# Altium footprint library 运放.PcbLib: 1 footprints
Each footprint in its own frame and in the unit in brackets; x right, y up, seen from the top. Pads: shape width x height; smd on the part's side, far side on the other; paste and mask are expansions set on the pad; w line width, h text height; cw(c..) or ccw(c..) is an arc to the next point about the centre after c.
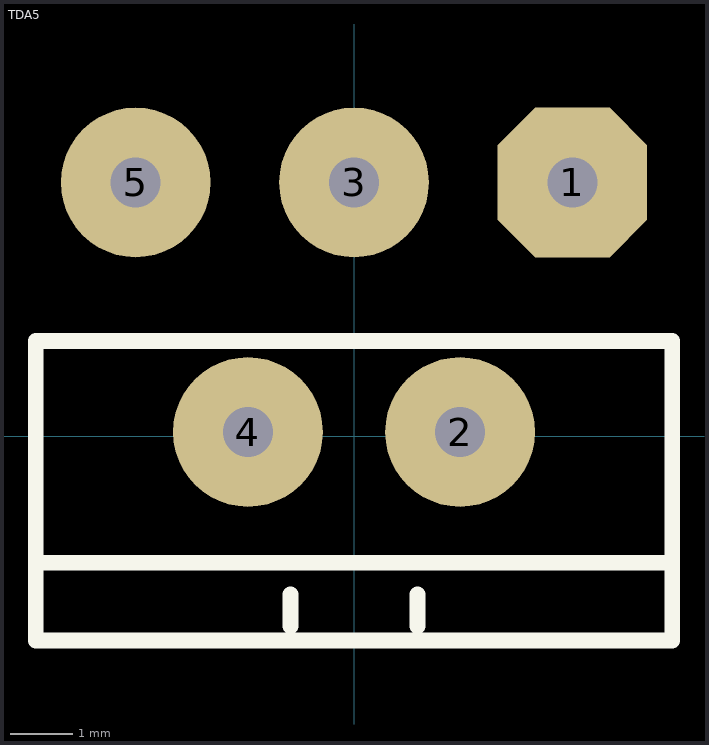
[diagram p0: the footprint, top view; thin cyan lines are the x and y axes]

## TDA5 [mm]
pads (5):
  oct 2.4x2.4 hole 0.8: 1(3.5,4.064)
  round 2.4 hole 0.8: 2(1.7,0.064) 3(0,4.064) 4(-1.7,0.064) 5(-3.5,4.064)
Top Overlay:
  lines w0.254: -5.1,-2.032 -1.016,-2.032 5.1,-2.032 ; -1.016,-3.048 -1.016,-2.54 ; 1.016,-3.048 1.016,-2.54 ; -5.1,-3.276 5.1,-3.276 5.1,1.524 -5.1,1.524 -5.1,-3.276